# Altium schematic symbol library Sch_USB_TTL.SchLib: 1 symbol
Pins are listed as number, name and electrical type; pins without a type are passive.

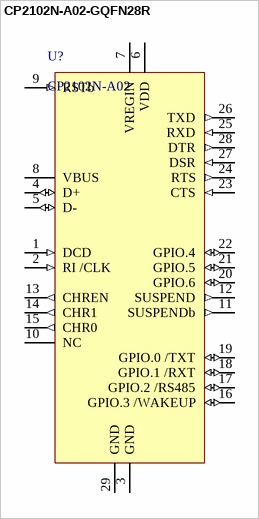
[diagram p0: symbol CP2102N-A02-GQFN28R]

## CP2102N-A02-GQFN28R
designator U?, comment CP2102N-A02
USB to UART QFN-28-EP(5x5) USB Converters ROHS; Manufacturer: Silicon Labs; Manufacturer Part Number: CP2102N-A02-GQFN28R; Supplier: Digikey; Supplier Part Number: 336-5890-1-ND; RoHS: Yes; Category: USB Interface ICs; Stock: 9178; Pricing: 1=4.32, 10=3.275, 25=3.0136, 100=2.7262, 250=2.5892, 500=2.50662 (USD); ComponentLink1URL: https://datasheet.ciiva.com:443/pdfs/VipMasterIC/IC/SILC/SILC-S-A0007770867/SILC-S-A0007770867-1.pdf?src-supplier=IHS+Markit; ComponentLink1Description: https://datasheet.ciiva.com:443/pdfs/VipMasterIC/IC/SILC/SILC-S-A0007770867/SILC-S-A0007770867-1.pdf?src-supplier=IHS+Markit; ComponentLink2URL: https://www.silabs.com/documents/public/data-sheets/cp2102n-datasheet.pdf?src-supplier=Digikey; ComponentLink2Description: https://www.silabs.com/documents/public/data-sheets/cp2102n-datasheet.pdf?src-supplier=Digikey; ComponentLink3URL: https://4donline.ihs.com/images/VipMasterIC/IC/SILC/SILC-S-A0007770867/SILC-S-A0007770867-1.pdf?hkey=6D3A4C79FDBF58556ACFDE234799DDF0&src-supplier=Farnell; ComponentLink3Description: https://4donline.ihs.com/images/VipMasterIC/IC/SILC/SILC-S-A0007770867/SILC-S-A0007770867-1.pdf?hkey=6D3A4C79FDBF58556ACFDE234799DDF0&src-supplier=Farnell; LCSC Part #: C964632
footprint IC_CP2102N-A02-GQFN28R
pins: 1 DCD (in), 2 RI /CLK (in), 3 GND (power), 4 D+ (io), 5 D- (io), 6 VDD (power), 7 VREGIN (power), 8 VBUS (power), 9 RSTb (in), 10 NC, 11 SUSPENDb (out), 12 SUSPEND (out), 13 CHREN (out), 14 CHR1 (out), 15 CHR0 (out), 16 GPIO.3 /WAKEUP (io), 17 GPIO.2 /RS485 (io), 18 GPIO.1 /RXT (io), 19 GPIO.0 /TXT (io), 20 GPIO.6 (io), 21 GPIO.5 (io), 22 GPIO.4 (io), 23 CTS (in), 24 RTS (out), 25 RXD (in), 26 TXD (out), 27 DSR (in), 28 DTR (out), 29 GND (power)